# Altium footprint library SparkFun-Batteries.PCBLIB: 21 footprints (part 1 of 2)
Each footprint in its own frame and in the unit in brackets; x right, y up, seen from the top. Pads: shape width x height; smd on the part's side, far side on the other; paste and mask are expansions set on the pad; w line width, h text height; cw(c..) or ccw(c..) is an arc to the next point about the centre after c.
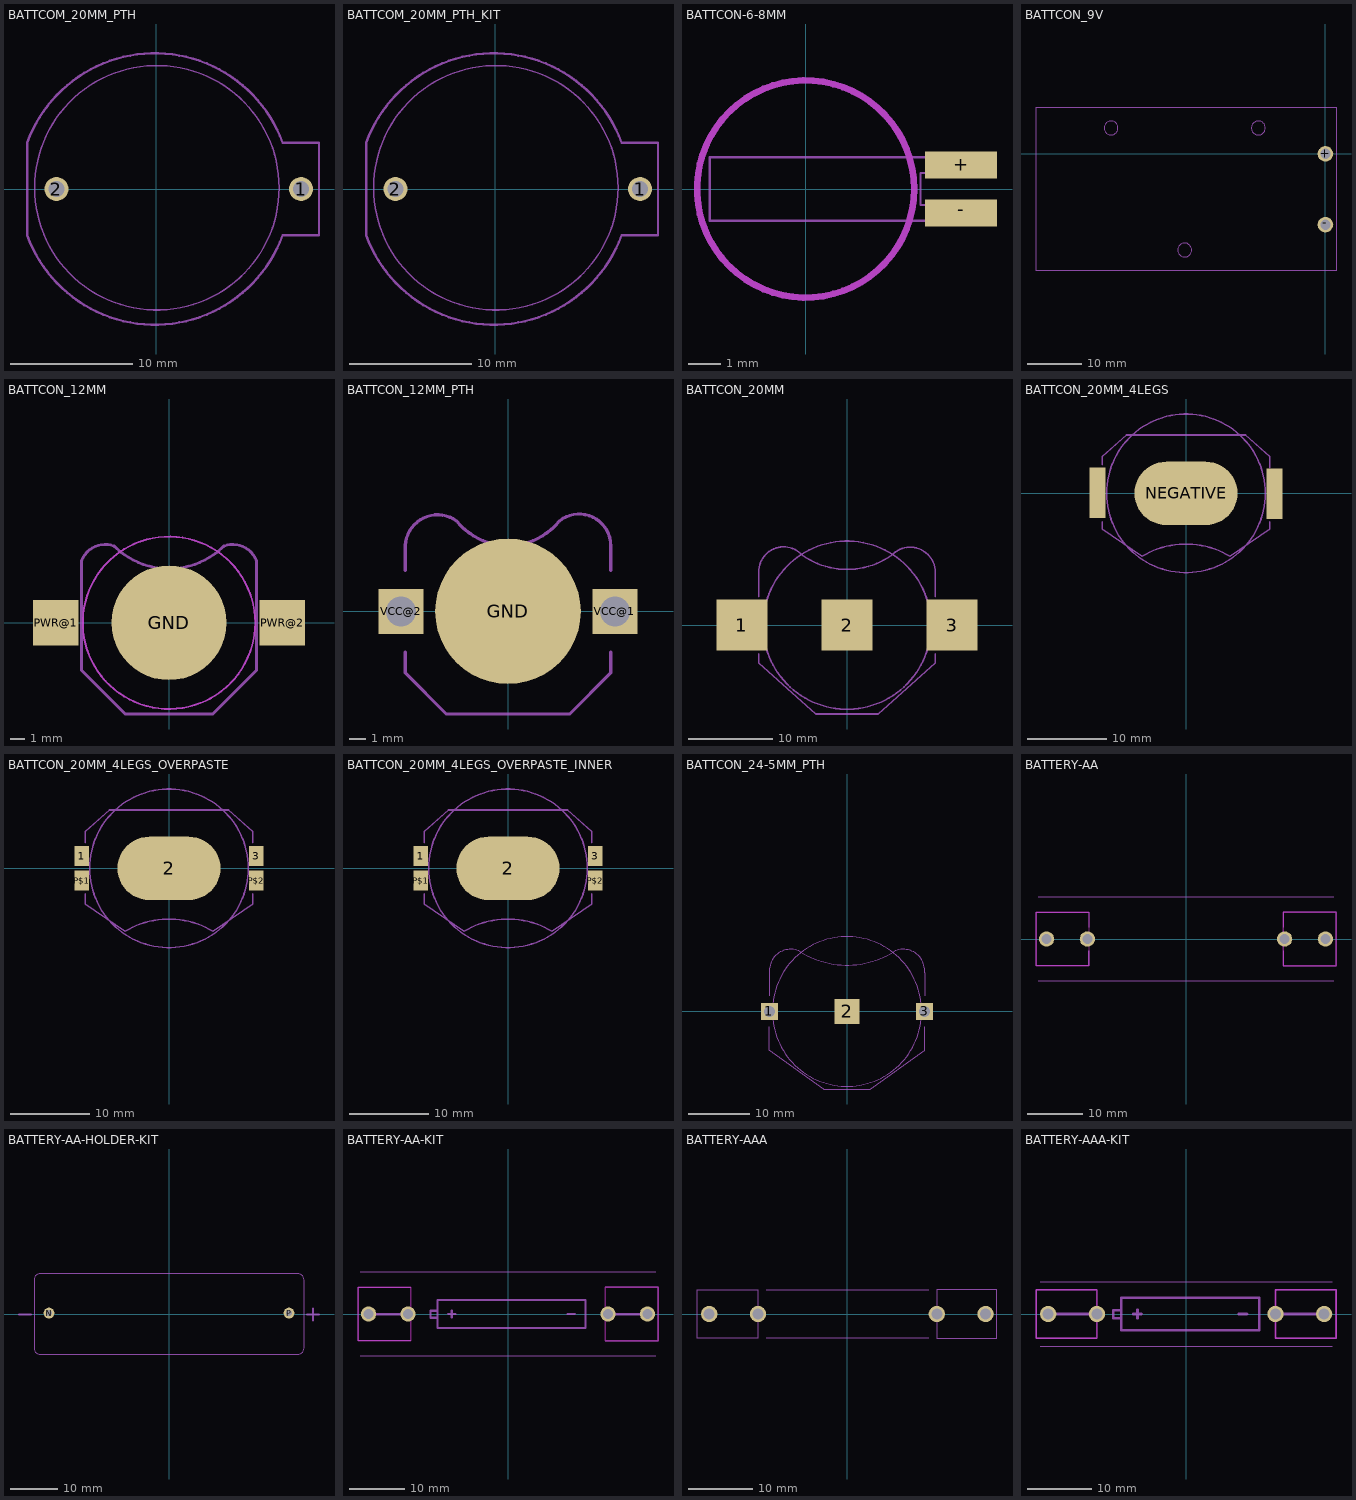
[diagram p0: the footprints below, top view; thin cyan lines are the x and y axes]

## BATTCOM_20MM_PTH [mil]
pads (2):
  round 76.77 hole 51.18: 1(466.54,0) 2(-320.87,0)
tDocu:
  circle w5: c2.36,3.94 r393.7
  text "+" at 338.58,-27.56 h77.5
  text "-" at -251.97,-27.56 h77.5
tPlace:
  lines w8: -414.96,-149.61 -414.96,149.61 cw(c-3.94,-0.57) 407.09,149.61 524.41,149.61 524.41,-149.61 407.09,-149.61 cw(c-3.94,0.57) -414.96,-149.61

## BATTCOM_20MM_PTH_KIT [mil]
pads (2):
  round 76.77 hole 51.18: 1(466.54,0) 2(-320.87,0)
Top Solder:
  region: -343,-1 -343.2,3.38 -340.22,11.61 -334.31,18.08 -326.38,21.8 -322,22 -317.62,22.4 -309.23,19.78 -302.48,14.16 -298.4,6.38 -298,2 -297.7,-2.48 -300.58,-10.97 -306.48,-17.72 -314.52,-21.7 -323.48,-22.3 -331.97,-19.42 -338.72,-13.52 -342.7,-5.48 -343,-1
  region: 444,-1 443.8,3.38 446.78,11.61 452.69,18.08 460.62,21.8 465,22 469.38,22.4 477.77,19.78 484.52,14.16 488.6,6.38 489,2 489.3,-2.48 486.42,-10.97 480.52,-17.72 472.48,-21.7 463.52,-22.3 455.03,-19.42 448.28,-13.52 444.3,-5.48 444,-1
Bottom Solder:
  region: -361,-1 -361,3.04 -359.42,10.96 -356.33,18.42 -351.85,25.14 -346.14,30.85 -339.42,35.33 -331.96,38.42 -324.04,40 -320,40 -316.06,40 -308.33,38.46 -301.05,35.45 -294.5,31.07 -288.93,25.5 -284.55,18.95 -281.54,11.67 -280,3.94 -280,0 -280,-3.94 -281.54,-11.67 -284.55,-18.95 -288.93,-25.5 -294.5,-31.07 -301.05,-35.45 -308.33,-38.46 -316.06,-40 -320,-40 -323.94,-40.1 -331.71,-38.75 -339.06,-35.92 -345.72,-31.71 -351.43,-26.28 -355.97,-19.83 -359.17,-12.63 -360.9,-4.94 -361,-1
  region: 426,-1 426,3.04 427.58,10.96 430.67,18.42 435.15,25.14 440.86,30.85 447.58,35.33 455.04,38.42 462.96,40 467,40 470.94,40 478.67,38.46 485.95,35.45 492.5,31.07 498.07,25.5 502.45,18.95 505.46,11.67 507,3.94 507,0 507,-3.94 505.46,-11.67 502.45,-18.95 498.07,-25.5 492.5,-31.07 485.95,-35.45 478.67,-38.46 470.94,-40 467,-40 463.06,-40.1 455.29,-38.75 447.94,-35.92 441.28,-31.71 435.57,-26.28 431.03,-19.83 427.83,-12.63 426.1,-4.94 426,-1
tDocu:
  circle w5: c2.36,3.94 r393.7
  text "+" at 338.58,-27.56 h77.5
  text "-" at -251.97,-27.56 h77.5
tPlace:
  lines w8: -414.96,-149.61 -414.96,149.61 cw(c-3.94,-0.57) 407.09,149.61 524.41,149.61 524.41,-149.61 407.09,-149.61 cw(c-3.94,0.57) -414.96,-149.61

## BATTCON-6-8MM [mil]
pads (2):
  rect 88.58x33.46 smd: +(191.73,29.53) -(191.73,-29.53)
Top keep-out:
  circle w8: c0,0 r133.86
tDocu:
  lines w3: -118.11,-39.37 -118.11,39.37 232.28,39.37 232.28,19.69 141.73,19.69 141.73,-19.69 232.28,-19.69 232.28,-39.37 -118.11,-39.37
tPlace:
  circle w8: c0,0 r133.86

## BATTCON_9V [mil]
pads (2):
  round 112.5 hole 75: +(0,0) -(0,-510)
tDocu:
  circle w5: c-1546,187 r50
  circle w5: c-484,187 r50
  circle w5: c-1015,-693 r50
tPlace:
  lines w8: -2087,-843 76,-843 76,337 -2087,337 -2087,-843

## BATTCON_12MM [mil]
pads (3):
  rrect100% 314.96x314.96 smd paste+0: GND(0,0)
  rect 125x125 smd: PWR@1(-310,0) PWR@2(310,0)
Top keep-out:
  circle w5: c0,0 r236.22
Top Paste:
  circle w78.74: c0,0 r39.37
tDocu:
  circle w5: c0,0 r236.22
tPlace:
  lines w8: -240,-130 -120,-250 120,-250 240,-130 240,170 ccw(c175,145) 150,210 cw(c0,360) -150,210 ccw(c-175,145) -240,170 -240,-130

## BATTCON_12MM_PTH [mil]
pads (3):
  rrect100% 354.33x354.33 smd paste+0: GND(0,0)
  rect 109.5x109.5 / inner round 101.16 / far side rect 109.5x109.5 hole 73: VCC@1(260,0) VCC@2(-260,0)
Top Paste:
  circle w78.74: c0,0 r39.37
tPlace:
  lines w8: -250,-100 -250,-150 -150,-250 150,-250 250,-150 250,-100 ; -250,100 -250,160 cw(c-171.35,156.35) -125,220 ccw(c0,320.21) 125,220 cw(c173.12,160.04) 250,160 250,100

## BATTCON_20MM [mil]
pads (3):
  rect 238.98x238.98 smd: 1(-492.13,0) 2(0,0) 3(492.13,0)
tDocu:
  circle w8: c0,0 r393.7
tPlace:
  lines w8: -413.39,-133.86 -413.39,-177.17 -145.67,-416.14 145.67,-416.14 413.39,-177.17 413.39,-133.86 ; -413.39,133.86 -413.39,248.03 cw(c-296.55,249.77) -208.66,326.77 ccw(c0,624.77) 208.66,326.77 cw(c295.52,247.08) 413.39,248.03 413.39,133.86

## BATTCON_20MM_4LEGS [mil]
pads (5):
  rrect100% 511.81x314.96 smd paste+0: NEGATIVE(0,0)
  rect 80x125 smd paste+0: POSITIVE@1(-440,65) POSITIVE@2(-440,-60) POSITIVE@3(440,60) POSITIVE@4(440,-65)
Top Paste:
  region: -78.74,-78.74 -78.74,78.74 78.74,78.74 78.74,-78.74
  region: -530,-135 -530,145 -390,145 -390,-135
  region: 390,-140 390,140 530,140 530,-140
tDocu:
  circle w8: c0,0 r393.7
  lines w8: -450.79,-100.39 -415.35,-100.39 -415.35,-21.65 -450.79,-21.65 -450.79,-100.39 ; -450.79,21.65 -415.35,21.65 -415.35,100.39 -450.79,100.39 -450.79,21.65 ; 415.35,-100.39 415.35,-21.65 450.79,-21.65 450.79,-100.39 415.35,-100.39 ; 415.35,21.65 415.35,100.39 450.79,100.39 450.79,21.65 415.35,21.65
tPlace:
  lines w8: -415.35,-140.98 -415.35,-179.13 -218.5,-312.99 cw(c0,-673.66) 218.5,-312.99 415.35,-179.13 415.35,-140.98 ; -415.35,140.98 -415.35,183.07 -295.28,289.37 295.28,289.37 415.35,183.07 415.35,125.98

## BATTCON_20MM_4LEGS_OVERPASTE [mil]
pads (5):
  rect 70x100 smd paste+0: 1(-433.07,61.02) 3(433.07,61.02) P$1(-433.07,-61.02) P$2(433.07,-61.02)
  rrect100% 511.81x314.96 smd paste+0: 2(0,0)
Top Paste:
  region: -78.74,-78.74 -78.74,78.74 78.74,78.74 78.74,-78.74
  region: -550,-120 -550,120 -390,120 -390,-120
  region: 390,-120 390,120 550,120 550,-120
tDocu:
  circle w8: c0,0 r393.7
  lines w8: -450.79,-100.39 -415.35,-100.39 -415.35,-21.65 -450.79,-21.65 -450.79,-100.39 ; -450.79,21.65 -415.35,21.65 -415.35,100.39 -450.79,100.39 -450.79,21.65 ; 415.35,-100.39 415.35,-21.65 450.79,-21.65 450.79,-100.39 415.35,-100.39 ; 415.35,21.65 415.35,100.39 450.79,100.39 450.79,21.65 415.35,21.65
tPlace:
  lines w8: -415.35,-125.98 -415.35,-179.13 -218.5,-312.99 cw(c0,-673.66) 218.5,-312.99 415.35,-179.13 415.35,-125.98 ; -415.35,125.98 -415.35,183.07 -295.28,289.37 295.28,289.37 415.35,183.07 415.35,125.98

## BATTCON_20MM_4LEGS_OVERPASTE_INNER [mil]
pads (5):
  rect 70x100 smd paste+0: 1(-433.07,61.02) 3(433.07,61.02) P$1(-433.07,-61.02) P$2(433.07,-61.02)
  rrect100% 511.81x314.96 smd paste+0: 2(0,0)
Top Paste:
  region: -78.74,-78.74 -78.74,78.74 78.74,78.74 78.74,-78.74
  region: -480,-120 -480,120 -320,120 -320,-120
  region: 320,-120 320,120 480,120 480,-120
tDocu:
  circle w8: c0,0 r393.7
  lines w8: -450.79,-100.39 -415.35,-100.39 -415.35,-21.65 -450.79,-21.65 -450.79,-100.39 ; -450.79,21.65 -415.35,21.65 -415.35,100.39 -450.79,100.39 -450.79,21.65 ; 415.35,-100.39 415.35,-21.65 450.79,-21.65 450.79,-100.39 415.35,-100.39 ; 415.35,21.65 415.35,100.39 450.79,100.39 450.79,21.65 415.35,21.65
tPlace:
  lines w8: -415.35,-125.98 -415.35,-179.13 -218.5,-312.99 cw(c0,-673.66) 218.5,-312.99 415.35,-179.13 415.35,-125.98 ; -415.35,125.98 -415.35,183.07 -295.28,289.37 295.28,289.37 415.35,183.07 415.35,125.98

## BATTCON_24-5MM_PTH [mil]
pads (3):
  rect 109.5x109.5 / inner round 101.16 / far side rect 109.5x109.5 hole 73: 1(-500,0) 3(500,0)
  rect 160x160 smd: 2(0,0)
tDocu:
  circle w8: c0,0 r482.28
tPlace:
  lines w8: -500,-100 -500,-250 -150,-500 150,-500 500,-250 500,-100 ; -500,100 -500,250 cw(c-363.94,264.08) -300,385 ccw(c0,867.1) 300,385 cw(c363.94,264.07) 500,250 500,100

## BATTERY-AA [mil]
pads (4):
  round 109.5 hole 73: GND@1(990,0) GND@2(700,0) PWR@1(-990,0) PWR@2(-700,0)
Top keep-out:
  lines w8: -690,-190 -690,190
  lines w10: -690,-190 -1065,-190 -1065,190 -690,190 ; 690,-190 1065,-190 1065,190 690,190 690,-190
tDocu:
  lines w5: -1050,-300 1050,-300 ; -1050,300 1050,300
tPlace:
  lines w8: -690,-190 -1065,-190 -1065,190 -690,190 -690,85 ; 690,-85 690,-190 1065,-190 1065,190 690,190 690,85
  lines w10: -690,-190 -690,-85
  text "+" at -580,-50 h155
  text "-" at 500,-50 h155

## BATTERY-AA-HOLDER-KIT [mil]
pads (2):
  round 90 hole 50: N(-1000,10) P(1000,10)
Top Solder:
  region: -1027.5,10 -1027.5,12.71 -1026.44,18.02 -1024.37,23.03 -1021.36,27.53 -1017.53,31.36 -1013.03,34.37 -1008.02,36.44 -1002.71,37.5 -1000,37.5 -997.29,37.5 -991.98,36.44 -986.97,34.37 -982.47,31.36 -978.64,27.53 -975.63,23.03 -973.56,18.02 -972.5,12.71 -972.5,10 -972.5,7.29 -973.56,1.98 -975.63,-3.03 -978.64,-7.53 -982.47,-11.36 -986.97,-14.37 -991.98,-16.44 -997.29,-17.5 -1000,-17.5 -1002.71,-17.5 -1008.02,-16.44 -1013.03,-14.37 -1017.53,-11.36 -1021.36,-7.53 -1024.37,-3.03 -1026.44,1.98 -1027.5,7.29 -1027.5,10
  region: 972.5,10 972.5,12.71 973.56,18.02 975.63,23.03 978.64,27.53 982.47,31.36 986.97,34.37 991.98,36.44 997.29,37.5 1000,37.5 1002.71,37.5 1008.02,36.44 1013.03,34.37 1017.53,31.36 1021.36,27.53 1024.37,23.03 1026.44,18.02 1027.5,12.71 1027.5,10 1027.5,7.29 1026.44,1.98 1024.37,-3.03 1021.36,-7.53 1017.53,-11.36 1013.03,-14.37 1008.02,-16.44 1002.71,-17.5 1000,-17.5 997.29,-17.5 991.98,-16.44 986.97,-14.37 982.47,-11.36 978.64,-7.53 975.63,-3.03 973.56,1.98 972.5,7.29 972.5,10
Bottom Solder:
  region: 955,57.5 1045,57.5 1049.68,57.5 1058.86,55.67 1067.5,52.09 1075.28,46.9 1081.9,40.28 1087.09,32.5 1090.67,23.86 1092.5,14.68 1092.5,10 1092.5,5.32 1090.67,-3.86 1087.09,-12.5 1081.9,-20.28 1075.28,-26.9 1067.5,-32.09 1058.86,-35.67 1049.68,-37.5 1045,-37.5 955,-37.5 950.32,-37.5 941.14,-35.67 932.5,-32.09 924.72,-26.9 918.1,-20.28 912.91,-12.5 909.33,-3.86 907.5,5.32 907.5,10 907.5,14.68 909.33,23.86 912.91,32.5 918.1,40.28 924.72,46.9 932.5,52.09 941.14,55.67 950.32,57.5 955,57.5
  region: -1045,57.5 -955,57.5 -950.32,57.5 -941.14,55.67 -932.5,52.09 -924.72,46.9 -918.1,40.28 -912.91,32.5 -909.33,23.86 -907.5,14.68 -907.5,10 -907.5,5.32 -909.33,-3.86 -912.91,-12.5 -918.1,-20.28 -924.72,-26.9 -932.5,-32.09 -941.14,-35.67 -950.32,-37.5 -955,-37.5 -1045,-37.5 -1049.68,-37.5 -1058.86,-35.67 -1067.5,-32.09 -1075.28,-26.9 -1081.9,-20.28 -1087.09,-12.5 -1090.67,-3.86 -1092.5,5.32 -1092.5,10 -1092.5,14.68 -1090.67,23.86 -1087.09,32.5 -1081.9,40.28 -1075.28,46.9 -1067.5,52.09 -1058.86,55.67 -1049.68,57.5 -1045,57.5
tPlace:
  lines w7: -1125,-282.5 -1125,287.5 cw(c-1075,287.5) -1075,337.5 1075,337.5 cw(c1075,287.5) 1125,287.5 1125,-282.5 cw(c1075,-282.5) 1075,-332.5 -1075,-332.5 cw(c-1075,-282.5) -1125,-282.5
  lines w16: -1250,0 -1150,0 ; 1150,0 1250,0 ; 1200,-50 1200,50

## BATTERY-AA-KIT [mil]
pads (4):
  round 109.5 hole 73: GND@1(990,0) GND@2(710,0) PWR@1(-990,0) PWR@2(-710,0)
Top keep-out:
  lines w10: -1065,-190 -690,-190 -690,190 -1065,190 -1065,-190 ; 690,-190 1065,-190 1065,190 690,190 690,-190
Top Solder:
  drawing of 4 lines, arcs and shapes, not listed
Bottom Solder:
  drawing of 4 lines, arcs and shapes, not listed
tDocu:
  lines w5: -1050,-300 1050,-300 ; -1050,300 1050,300
tPlace:
  lines w8: -690,-190 -1065,-190 -1065,190 -690,190 ; 690,-190 1065,-190 1065,190 690,190
  lines w16: -425,0 -375,0 ; -400,-25 -400,25 ; 425,0 475,0 ; -500,-27 -500,23 ; -500,-27 -500,-100 550,-100 550,100 -500,100 -500,23 ; -500,-27 -550,-27 -550,23 -500,23
Reference:
  lines w16: -945.5,-1.9 -744.6,-1.8 ; 744.5,-1.9 945.4,-1.8

## BATTERY-AAA [mil]
pads (4):
  round 100.5 hole 67: GND@1(850,0) GND@2(550,0) PWR@1(-850,0) PWR@2(-550,0)
tDocu:
  lines w5: -500,-150 500,-150 ; -500,150 500,150 ; -925,-150 -550,-150 -550,150 -925,150 -925,-150 ; 550,-150 550,150 920,150 920,-150 550,-150
tPlace:
  text "+" at -450,-50 h155
  text "-" at 350,-50 h155

## BATTERY-AAA-KIT [mil]
pads (4):
  round 100.5 hole 67: GND@1(850,0) GND@2(550,0) PWR@1(-850,0) PWR@2(-550,0)
Top keep-out:
  lines w8: -923,-150 -923,150
  lines w10: -923,-150 -550,-150 -550,150 -923,150 ; 550,-150 923,-150 923,150 550,150 550,-150
Top Solder:
  circle w35: c550,0 r15.81
  circle w35: c850,0 r15.81
  circle w35: c-550,0 r15.81
  circle w35: c-850,0 r15.81
Bottom Solder:
  circle w70: c550,0 r15.81
  circle w70: c850,0 r15.81
  circle w70: c-550,0 r15.81
  circle w70: c-850,0 r15.81
tDocu:
  lines w5: -925,-150 -925,150 ; -900,-200 900,-200 ; -900,200 900,200 ; -550,-150 -550,150 ; 550,-150 550,150 923,150 923,-150 550,-150
  lines w8: -925,-150 -550,-150 ; -925,150 -550,150
tPlace:
  lines w8: -550,-150 -923,-150 -923,150 -550,150 ; 550,-150 923,-150 923,150 550,150
  lines w16: -325,0 -275,0 ; -300,-25 -300,25 ; 325,0 375,0 ; -400,-27 -400,23 ; -400,-27 -400,-100 450,-100 450,100 -400,100 -400,23 ; -400,-27 -450,-27 -450,23 -400,23
Reference:
  lines w16: -850,0 -550,0 ; 550,0 850,0